# Altium schematic symbol library Microschemes.SchLib: 118 symbols (part 2 of 2)
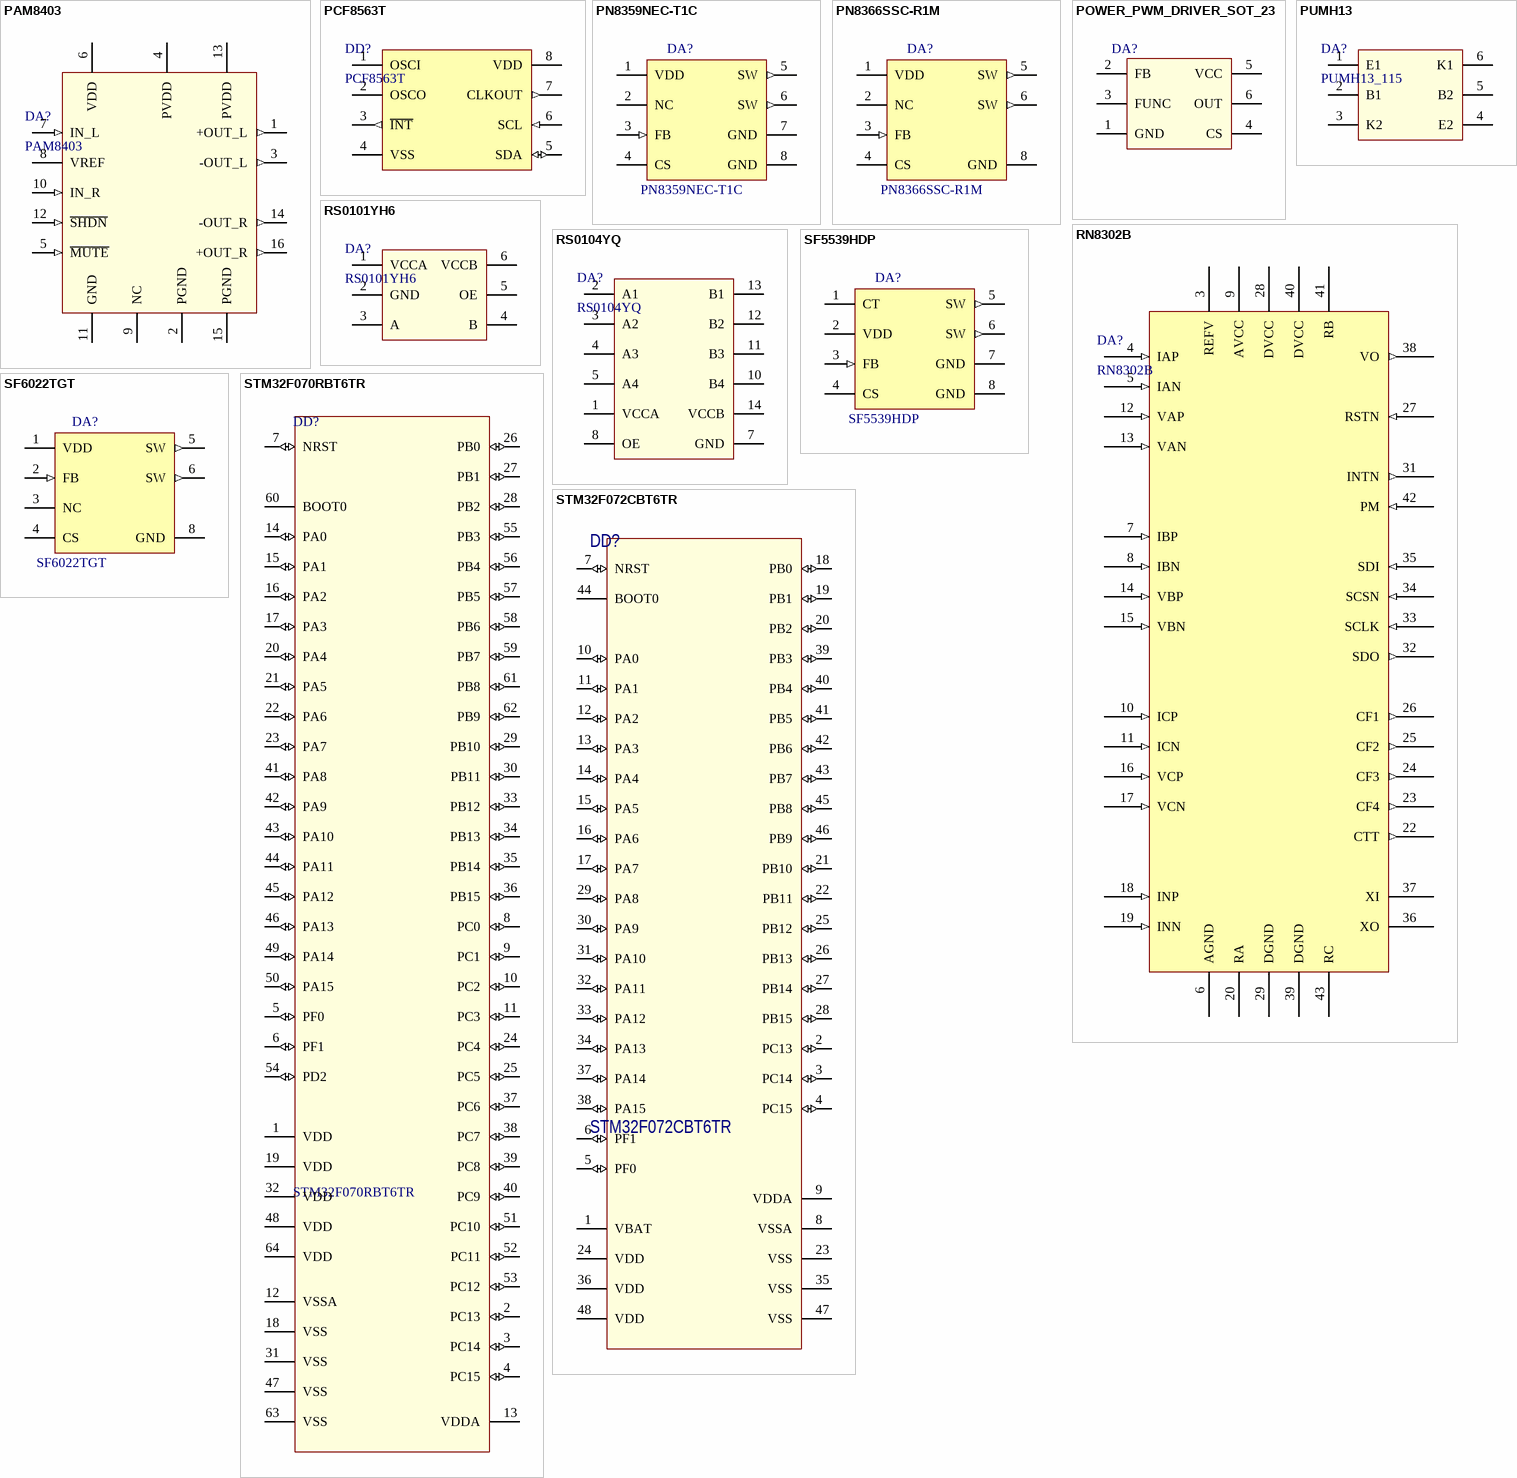
[diagram p14: symbols PAM8403 to STM32F072CBT6TR]

## PAM8403
designator DA?
Filterless 3W Class-D Stereo Audio Amplifier, SOP-16
footprint SO-16 (SOIC, 16-Leads, Body 9.9x3.9mm, Pitch 1.27mm)
pins: 1 +OUT_L (out), 2 PGND (power), 3 -OUT_L (out), 4 PVDD (power), 5 ~{MUTE} (in), 6 VDD (power), 7 IN_L (in), 8 VREF, 9 NC (power), 10 IN_R (in), 11 GND (power), 12 ~{SHDN} (in), 13 PVDD (power), 14 -OUT_R (out), 15 PGND (power), 16 +OUT_R (out)

## PCF8563T
designator DD?
Real-time clock/calendar, SOIC-8
pins: 1 OSCI, 2 OSCO, 3 ~{INT} (out), 4 VSS (power), 5 SDA (io), 6 SCL (in), 7 CLKOUT (out), 8 VDD (power)

## PN8359NEC-T1C
designator DA?
Ultra-low standby power consumption quasi-resonant primary side feedback AC-DC converter, 15W, DIP-8
footprint DIP8
pins: 1 VDD (power), 2 NC, 3 FB (in), 4 CS (oc), 5 SW (out), 6 SW (out), 7 GND (power), 8 GND (power)

## PN8366SSC-R1M
designator DA?
Ultra-low standby power consumption quasi-resonant primary side feedback AC-DC converter, SOP-7
footprint SOP-7 (SOIC, 7-Leads, Body 4.9x3.9mm, Pitch 1.27mm)
pins: 1 VDD (power), 2 NC, 3 FB (in), 4 CS (oc), 5 SW (out), 6 SW (out), 8 GND (power)

## POWER_PWM_DRIVER_SOT_23
designator DA?
Current-Mode PWM / Controller for Off-line / Power Supplies
footprint SOT-23-6 (SOT23, 6-Leads, Body 2.9x1.3mm, Pitch 0.95mm, Lead Span 2.3mm, IPC Medium Density)
pins: 1 GND, 2 FB, 3 FUNC, 4 CS, 5 VCC, 6 OUT

## PUMH13
designator DA?, comment PUMH13_115
NPN/NPN resistor-equipped transistors; R1 = 4.7 k, R2 = 47 k
pins: 1 E1, 2 B1, 3 K2, 4 E2, 5 B2, 6 K1

## RN8302B
designator DA?
Three-phase Anti-tampering Multifuction Electircal Energy Meter IC
pins: 3 REFV, 4 IAP (in), 5 IAN (in), 6 AGND, 7 IBP (in), 8 IBN (in), 9 AVCC, 10 ICP (in), 11 ICN (in), 12 VAP (in), 13 VAN (in), 14 VBP (in), 15 VBN (in), 16 VCP (in), 17 VCN (in), 18 INP (in), 19 INN (in), 20 RA, 22 CTT (out), 23 CF4 (out), 24 CF3 (out), 25 CF2 (out), 26 CF1 (out), 27 RSTN (in), 28 DVCC, 29 DGND, 31 INTN (out), 32 SDO (out), 33 SCLK (in), 34 SCSN (in), 35 SDI (in), 36 XO, 37 XI, 38 VO (out), 39 DGND, 40 DVCC, 41 RB, 42 PM (in), 43 RC

## RS0101YH6
designator DA?
Level Translators, Shifters RoHS
pins: 1 VCCA, 2 GND, 3 A, 4 B, 5 OE, 6 VCCB

## RS0104YQ
designator DA?
TSSOP-14 4-channel Level Translators, Shifters RoHS
pins: 1 VCCA, 2 A1, 3 A2, 4 A3, 5 A4, 7 GND, 8 OE, 10 B4, 11 B3, 12 B2, 13 B1, 14 VCCB

## SF5539HDP
designator DA?
Fixed 65kHz Fsw high perfomance current mode flyback PWM controller, 18W open frame, DIP-8
footprint DIP8
pins: 1 CT (power), 2 VDD, 3 FB (in), 4 CS (oc), 5 SW (out), 6 SW (out), 7 GND (power), 8 GND (power)

## SF6022TGT
designator DA?
The second generation of PSR constant voltage constant current (CV/CC) power switch, SOP-7
footprint SOP-7 (SOIC, 7-Leads, Body 4.9x3.9mm, Pitch 1.27mm)
pins: 1 VDD (power), 2 FB (in), 3 NC, 4 CS (oc), 5 SW (out), 6 SW (out), 8 GND (power)

## STM32F070RBT6TR
designator DD?
IC, MCU, LQFP-64, 32-bit ARM Cortex-M0, 48Mhz, flash 128kb (ST)
footprint LQFP64
pins: 1 VDD (power) "Digital power supply", 2 PC13 (io) "WKUP2,  RTC_TAMP1,  RTC_TS,  RTC_OUT", 3 PC14 (io) "OSC32_IN", 4 PC15 (io) "OSC32_OU", 5 PF0 (io) "I2C1_SDA, OSC_IN", 6 PF1 (io) "I2C1_SCL, OSC_OUT", 7 NRST (io) "Device reset input / internal reset output (active low)", 8 PC0 (io), 9 PC1 (io), 10 PC2 (io), 11 PC3 (io), 12 VSSA (power) "Analog ground", 13 VDDA (power) "Analog power supply", 14 PA0 (io) "USART2_CTS,  USART4_TX  RTC_ TAMP2,  WKUP1, ADC_IN0,", 15 PA1 (io) "USART2_RTS,  TIM15_CH1N,  USART4_RX, EVENTOUT  ADC_IN1", 16 PA2 (io) "USART2_TX, TIM15_CH1 ADC_IN2, WKUP4", 17 PA3 (io) "USART2_RX, TIM15_CH2 ADC_IN3", 18 VSS (power) "Graound", 19 VDD (power) "Digital power supply", 20 PA4 (io) "SPI1_NSS, TIM14_CH1,  USART2_CK,  USB_NOE(3)  ADC_IN4", 21 PA5 (io) "SPI1_SCK ADC_IN5", 22 PA6 (io) "SPI1_MISO, TIM3_CH1,  TIM1_BKIN,  TIM16_CH1, EVENTOUT,  USART3_CTS  ADC_IN6", 23 PA7 (io) "SPI1_MOSI, TIM3_CH2,  TIM14_CH1,  TIM1_CH1N, TIM17_CH1,  EVENTOUT  ADC_IN7", 24 PC4 (io), 25 PC5 (io), 26 PB0 (io) "TIM3_CH3, TIM1_CH2N,  EVENTOUT,  USART3_CK  ADC_IN8", 27 PB1 (io) "TIM3_CH4,  USART3_RTS,  TIM14_CH1, TIM1_CH3N  ADC_IN9", 28 PB2 (io), 29 PB10 (io) "SPI2_SCK, USART3_TX", 30 PB11 (io) "USART3_RX,  EVENTOUT, I2C2_SDA", 31 VSS (power) "Graound", 32 VDD (power) "Digital power supply", 33 PB12 (io) "TIM1_BKIN, TIM15_BKIN,  SPI2_NSS, EVENTOUT,  USART3_CK", 34 PB13 (io) "SPI2_SCK, I2C2_SCL,  TIM1_CH1N,  USART3_CTS", 35 PB14 (io) "SPI2_MISO, I2C2_SDA,  TIM1_CH2N, TIM15_CH1,  USART3_RTS", 36 PB15 (io) "SPI2_MOSI, TIM1_CH3N,  TIM15_CH1N,  TIM15_CH2  WKUP7,  RTC_REFIN", 37 PC6 (io), 38 PC7 (io), 39 PC8 (io), 40 PC9 (io), 41 PA8 (io) "USART1_CK, TIM1_CH1,  EVENTOUT, MCO", 42 PA9 (io) "USART1_TX, TIM1_CH2,  TIM15_BKIN,  I2C1_SCL", 43 PA10 (io) "USART1_RX, TIM1_CH3,  TIM17_BKIN,  I2C1_SDA", 44 PA11 (io) "USART1_CTS,  TIM1_CH4, EVENTOUT USB_DM", 45 PA12 (io) "USART1_RTS,  TIM1_ETR, EVENTOUT USB_DP", 46 PA13 (io) "IR_OUT, SWDIO,  USB_NOE", 47 VSS (power) "Ground", 48 VDD (power) "Digital power supply", 49 PA14 (io) "USART2_TX, SWCLK", 50 PA15 (io) "SPI1_NSS, USART2_RX,  USART4_RTS,  EVENTOUT", 51 PC10 (io), 52 PC11 (io), 53 PC12 (io), 54 PD2 (io), 55 PB3 (io) "SPI1_SCK, EVENTOUT", 56 PB4 (io) "SPI1_MISO, TIM17_BKIN,  TIM3_CH1, EVENTOUT", 57 PB5 (io) "SPI1_MOSI, I2C1_SMBA,  TIM16_BKIN,  TIM3_CH2  WKUP6", 58 PB6 (io) "I2C1_SCL, USART1_TX,  TIM16_CH1N", 59 PB7 (io) "I2C1_SDA, USART1_RX,  USART4_CTS,  TIM17_C", 60 BOOT0 "Boot memory selection", 61 PB8 (io) "I2C1_SCL, TIM16_CH1", 62 PB9 (io) "SPI2_NSS, I2C1_SDA,  IR_OUT,  TIM17_CH1, EVENTOUT", 63 VSS (power) "Ground", 64 VDD (power) "Digital power supply"

## STM32F072CBT6TR
designator DD?
IC, MCU, LQFP-48, 32-bit ARM Cortex-M0, 48Mhz, flash 128kb
footprint LQFP48
pins: 1 VBAT (power) "Digital power supply", 2 PC13 (io) "WKUP2,  RTC_TAMP1,  RTC_TS,  RTC_OUT", 3 PC14 (io) "OSC32_IN", 4 PC15 (io) "OSC32_OU", 5 PF0 (io) "I2C1_SDA, OSC_IN", 6 PF1 (io) "I2C1_SCL, OSC_OUT", 7 NRST (io) "Device reset input / internal reset output (active low)", 8 VSSA (power) "Analog ground", 9 VDDA (power) "Analog power supply", 10 PA0 (io) "USART2_CTS,  USART4_TX  RTC_ TAMP2,  WKUP1, ADC_IN0,", 11 PA1 (io) "USART2_RTS,  TIM15_CH1N,  USART4_RX, EVENTOUT  ADC_IN1", 12 PA2 (io) "USART2_TX, TIM15_CH1 ADC_IN2, WKUP4", 13 PA3 (io) "USART2_RX, TIM15_CH2 ADC_IN3", 14 PA4 (io) "SPI1_NSS, TIM14_CH1,  USART2_CK,  USB_NOE(3)  ADC_IN4", 15 PA5 (io) "SPI1_SCK ADC_IN5", 16 PA6 (io) "SPI1_MISO, TIM3_CH1,  TIM1_BKIN,  TIM16_CH1, EVENTOUT,  USART3_CTS  ADC_IN6", 17 PA7 (io) "SPI1_MOSI, TIM3_CH2,  TIM14_CH1,  TIM1_CH1N, TIM17_CH1,  EVENTOUT  ADC_IN7", 18 PB0 (io) "TIM3_CH3, TIM1_CH2N,  EVENTOUT,  USART3_CK  ADC_IN8", 19 PB1 (io) "TIM3_CH4,  USART3_RTS,  TIM14_CH1, TIM1_CH3N  ADC_IN9", 20 PB2 (io), 21 PB10 (io) "SPI2_SCK, USART3_TX", 22 PB11 (io) "USART3_RX,  EVENTOUT, I2C2_SDA", 23 VSS (power) "Graound", 24 VDD (power) "Digital power supply", 25 PB12 (io) "TIM1_BKIN, TIM15_BKIN,  SPI2_NSS, EVENTOUT,  USART3_CK", 26 PB13 (io) "SPI2_SCK, I2C2_SCL,  TIM1_CH1N,  USART3_CTS", 27 PB14 (io) "SPI2_MISO, I2C2_SDA,  TIM1_CH2N, TIM15_CH1,  USART3_RTS", 28 PB15 (io) "SPI2_MOSI, TIM1_CH3N,  TIM15_CH1N,  TIM15_CH2  WKUP7,  RTC_REFIN", 29 PA8 (io) "USART1_CK, TIM1_CH1,  EVENTOUT, MCO", 30 PA9 (io) "USART1_TX, TIM1_CH2,  TIM15_BKIN,  I2C1_SCL", 31 PA10 (io) "USART1_RX, TIM1_CH3,  TIM17_BKIN,  I2C1_SDA", 32 PA11 (io) "USART1_CTS,  TIM1_CH4, EVENTOUT USB_DM", 33 PA12 (io) "USART1_RTS,  TIM1_ETR, EVENTOUT USB_DP", 34 PA13 (io) "IR_OUT, SWDIO,  USB_NOE", 35 VSS (power) "Ground", 36 VDD (power) "Digital power supply", 37 PA14 (io) "USART2_TX, SWCLK", 38 PA15 (io) "SPI1_NSS, USART2_RX,  USART4_RTS,  EVENTOUT", 39 PB3 (io) "SPI1_SCK, EVENTOUT", 40 PB4 (io) "SPI1_MISO, TIM17_BKIN,  TIM3_CH1, EVENTOUT", 41 PB5 (io) "SPI1_MOSI, I2C1_SMBA,  TIM16_BKIN,  TIM3_CH2  WKUP6", 42 PB6 (io) "I2C1_SCL, USART1_TX,  TIM16_CH1N", 43 PB7 (io) "I2C1_SDA, USART1_RX,  USART4_CTS,  TIM17_C", 44 BOOT0 "Boot memory selection", 45 PB8 (io) "I2C1_SCL, TIM16_CH1", 46 PB9 (io) "SPI2_NSS, I2C1_SDA,  IR_OUT,  TIM17_CH1, EVENTOUT", 47 VSS (power) "Ground", 48 VDD (power) "Digital power supply"

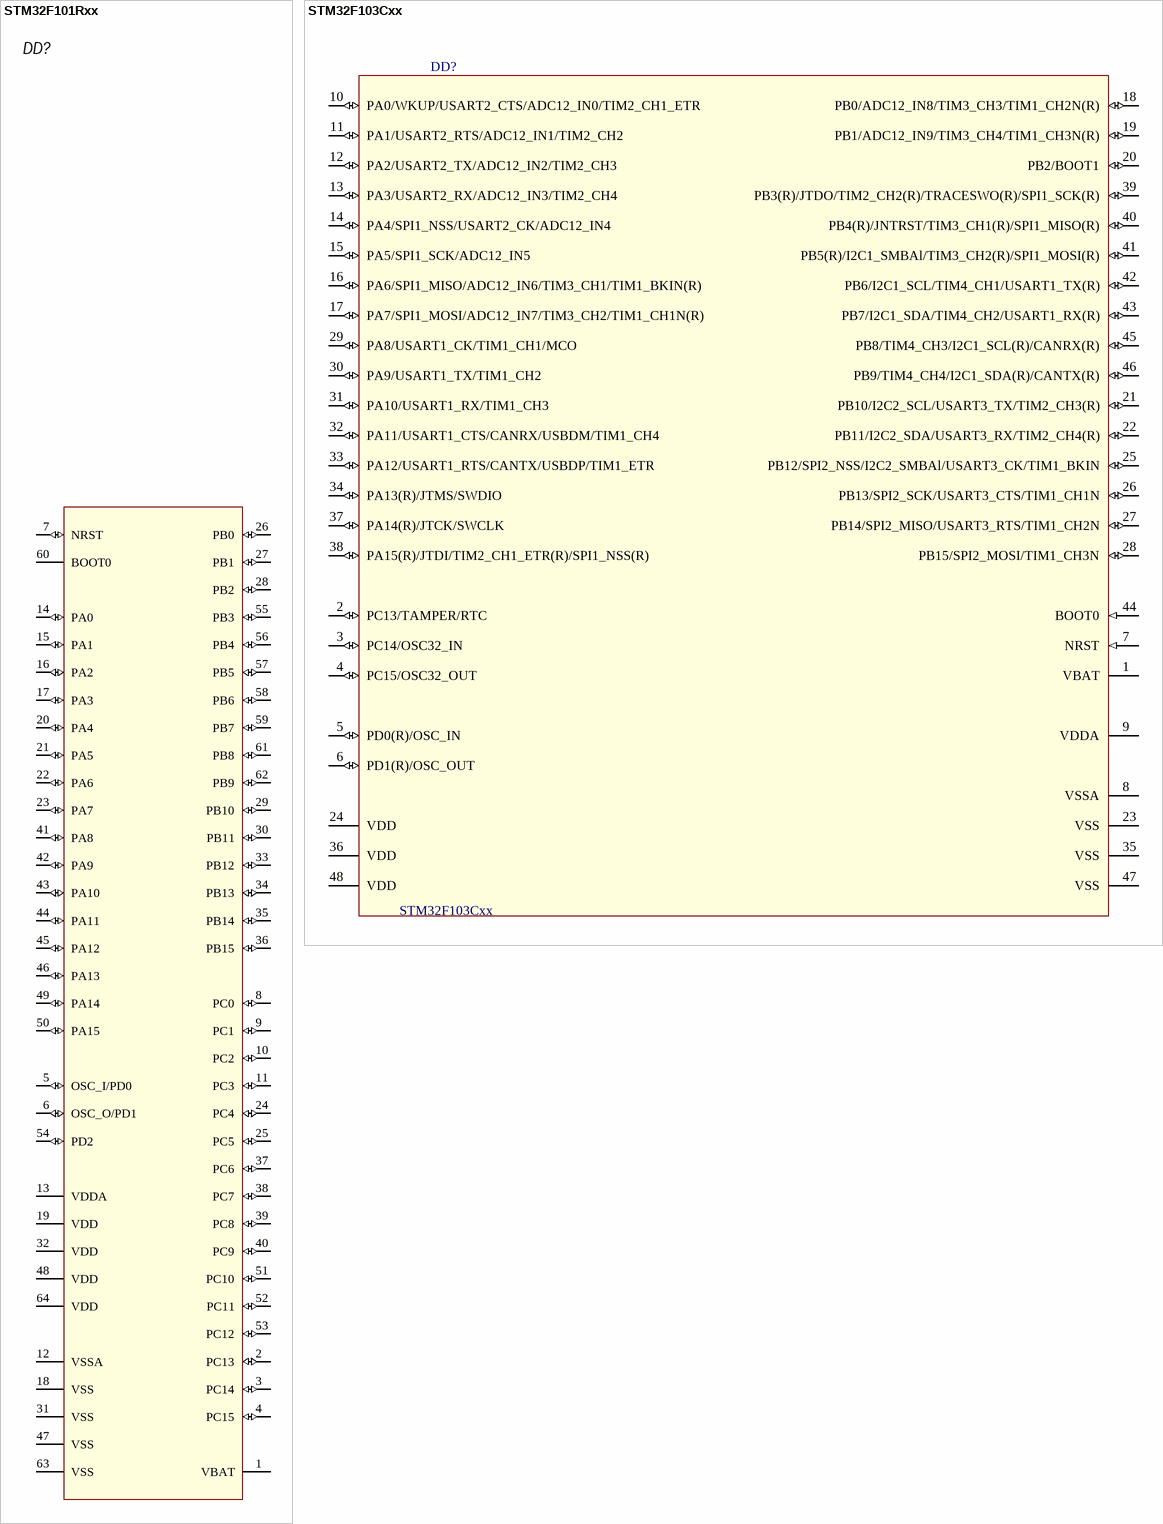
[diagram p11: symbols STM32F101Rxx to STM32F103Cxx]

## STM32F101Rxx
designator DD?, comment STM32F101RCT6  (value not drawn)
IC, MCU, LQFP-64, 32-bit ARM Cortex-M3; Manufacturer: ST; Group: Микросхемы; Value: Микроконтроллер; Name: STM32F101RCT6; Supplier: ООО"Торгэлектроника"
footprint LQFP64
pins: 1 VBAT (power) "Analog power supply", 2 PC13 (io) "WKUP2,  RTC_TAMP1,  RTC_TS,  RTC_OUT", 3 PC14 (io) "OSC32_IN", 4 PC15 (io) "OSC32_OU", 5 OSC_I/PD0 (io) "I2C1_SDA, OSC_IN", 6 OSC_O/PD1 (io) "I2C1_SCL, OSC_OUT", 7 NRST (io) "Device reset input / internal reset output (active low)", 8 PC0 (io), 9 PC1 (io), 10 PC2 (io), 11 PC3 (io), 12 VSSA (power) "Analog ground", 13 VDDA (power) "Digital power supply", 14 PA0 (io) "USART2_CTS,  USART4_TX  RTC_ TAMP2,  WKUP1, ADC_IN0,", 15 PA1 (io) "USART2_RTS,  TIM15_CH1N,  USART4_RX, EVENTOUT  ADC_IN1", 16 PA2 (io) "USART2_TX, TIM15_CH1 ADC_IN2, WKUP4", 17 PA3 (io) "USART2_RX, TIM15_CH2 ADC_IN3", 18 VSS (power) "Graound", 19 VDD (power) "Digital power supply", 20 PA4 (io) "SPI1_NSS, TIM14_CH1,  USART2_CK,  USB_NOE(3)  ADC_IN4", 21 PA5 (io) "SPI1_SCK ADC_IN5", 22 PA6 (io) "SPI1_MISO, TIM3_CH1,  TIM1_BKIN,  TIM16_CH1, EVENTOUT,  USART3_CTS  ADC_IN6", 23 PA7 (io) "SPI1_MOSI, TIM3_CH2,  TIM14_CH1,  TIM1_CH1N, TIM17_CH1,  EVENTOUT  ADC_IN7", 24 PC4 (io), 25 PC5 (io), 26 PB0 (io) "TIM3_CH3, TIM1_CH2N,  EVENTOUT,  USART3_CK  ADC_IN8", 27 PB1 (io) "TIM3_CH4,  USART3_RTS,  TIM14_CH1, TIM1_CH3N  ADC_IN9", 28 PB2 (io), 29 PB10 (io) "SPI2_SCK, USART3_TX", 30 PB11 (io) "USART3_RX,  EVENTOUT, I2C2_SDA", 31 VSS (power) "Graound", 32 VDD (power) "Digital power supply", 33 PB12 (io) "TIM1_BKIN, TIM15_BKIN,  SPI2_NSS, EVENTOUT,  USART3_CK", 34 PB13 (io) "SPI2_SCK, I2C2_SCL,  TIM1_CH1N,  USART3_CTS", 35 PB14 (io) "SPI2_MISO, I2C2_SDA,  TIM1_CH2N, TIM15_CH1,  USART3_RTS", 36 PB15 (io) "SPI2_MOSI, TIM1_CH3N,  TIM15_CH1N,  TIM15_CH2  WKUP7,  RTC_REFIN", 37 PC6 (io), 38 PC7 (io), 39 PC8 (io), 40 PC9 (io), 41 PA8 (io) "USART1_CK, TIM1_CH1,  EVENTOUT, MCO", 42 PA9 (io) "USART1_TX, TIM1_CH2,  TIM15_BKIN,  I2C1_SCL", 43 PA10 (io) "USART1_RX, TIM1_CH3,  TIM17_BKIN,  I2C1_SDA", 44 PA11 (io) "USART1_CTS,  TIM1_CH4, EVENTOUT USB_DM", 45 PA12 (io) "USART1_RTS,  TIM1_ETR, EVENTOUT USB_DP", 46 PA13 (io) "IR_OUT, SWDIO,  USB_NOE", 47 VSS (power) "Ground", 48 VDD (power) "Digital power supply", 49 PA14 (io) "USART2_TX, SWCLK", 50 PA15 (io) "SPI1_NSS, USART2_RX,  USART4_RTS,  EVENTOUT", 51 PC10 (io), 52 PC11 (io), 53 PC12 (io), 54 PD2 (io), 55 PB3 (io) "SPI1_SCK, EVENTOUT", 56 PB4 (io) "SPI1_MISO, TIM17_BKIN,  TIM3_CH1, EVENTOUT", 57 PB5 (io) "SPI1_MOSI, I2C1_SMBA,  TIM16_BKIN,  TIM3_CH2  WKUP6", 58 PB6 (io) "I2C1_SCL, USART1_TX,  TIM16_CH1N", 59 PB7 (io) "I2C1_SDA, USART1_RX,  USART4_CTS,  TIM17_C", 60 BOOT0 "Boot memory selection", 61 PB8 (io) "I2C1_SCL, TIM16_CH1", 62 PB9 (io) "SPI2_NSS, I2C1_SDA,  IR_OUT,  TIM17_CH1, EVENTOUT", 63 VSS (power) "Ground", 64 VDD (power) "Digital power supply"

## STM32F103Cxx
designator DD?
IC, MCU, LQFP-48, 32-bit ARM Cortex-M3
footprint LQFP48
pins: 1 VBAT (power) "Analog power supply", 2 PC13/TAMPER/RTC (io) "WKUP2,  RTC_TAMP1,  RTC_TS,  RTC_OUT", 3 PC14/OSC32_IN (io) "OSC32_IN", 4 PC15/OSC32_OUT (io) "OSC32_OU", 5 PD0(R)/OSC_IN (io) "I2C1_SDA, OSC_IN", 6 PD1(R)/OSC_OUT (io) "I2C1_SCL, OSC_OUT", 7 NRST (in) "Device reset input / internal reset output (active low)", 8 VSSA (power) "Analog ground", 9 VDDA (power) "Digital power supply", 10 PA0/WKUP/USART2_CTS/ADC12_IN0/TIM2_CH1_ETR (io) "USART2_CTS,  USART4_TX  RTC_ TAMP2,  WKUP1, ADC_IN0,", 11 PA1/USART2_RTS/ADC12_IN1/TIM2_CH2 (io) "USART2_RTS,  TIM15_CH1N,  USART4_RX, EVENTOUT  ADC_IN1", 12 PA2/USART2_TX/ADC12_IN2/TIM2_CH3 (io) "USART2_TX, TIM15_CH1 ADC_IN2, WKUP4", 13 PA3/USART2_RX/ADC12_IN3/TIM2_CH4 (io) "USART2_RX, TIM15_CH2 ADC_IN3", 14 PA4/SPI1_NSS/USART2_CK/ADC12_IN4 (io) "SPI1_NSS, TIM14_CH1,  USART2_CK,  USB_NOE(3)  ADC_IN4", 15 PA5/SPI1_SCK/ADC12_IN5  (io) "SPI1_SCK ADC_IN5", 16 PA6/SPI1_MISO/ADC12_IN6/TIM3_CH1/TIM1_BKIN(R) (io) "SPI1_MISO, TIM3_CH1,  TIM1_BKIN,  TIM16_CH1, EVENTOUT,  USART3_CTS  ADC_IN6", 17 PA7/SPI1_MOSI/ADC12_IN7/TIM3_CH2/TIM1_CH1N(R) (io) "SPI1_MOSI, TIM3_CH2,  TIM14_CH1,  TIM1_CH1N, TIM17_CH1,  EVENTOUT  ADC_IN7", 18 PB0/ADC12_IN8/TIM3_CH3/TIM1_CH2N(R) (io) "TIM3_CH3, TIM1_CH2N,  EVENTOUT,  USART3_CK  ADC_IN8", 19 PB1/ADC12_IN9/TIM3_CH4/TIM1_CH3N(R) (io) "TIM3_CH4,  USART3_RTS,  TIM14_CH1, TIM1_CH3N  ADC_IN9", 20 PB2/BOOT1 (io) "PB2", 21 PB10/I2C2_SCL/USART3_TX/TIM2_CH3(R) (io) "SPI2_SCK, USART3_TX", 22 PB11/I2C2_SDA/USART3_RX/TIM2_CH4(R) (io) "USART3_RX,  EVENTOUT, I2C2_SDA", 23 VSS (power) "Graound", 24 VDD (power) "Digital power supply", 25 PB12/SPI2_NSS/I2C2_SMBAl/USART3_CK/TIM1_BKIN (io) "TIM1_BKIN, TIM15_BKIN,  SPI2_NSS, EVENTOUT,  USART3_CK", 26 PB13/SPI2_SCK/USART3_CTS/TIM1_CH1N (io) "SPI2_SCK, I2C2_SCL,  TIM1_CH1N,  USART3_CTS", 27 PB14/SPI2_MISO/USART3_RTS/TIM1_CH2N (io) "SPI2_MISO, I2C2_SDA,  TIM1_CH2N, TIM15_CH1,  USART3_RTS", 28 PB15/SPI2_MOSI/TIM1_CH3N (io) "SPI2_MOSI, TIM1_CH3N,  TIM15_CH1N,  TIM15_CH2  WKUP7,  RTC_REFIN", 29 PA8/USART1_CK/TIM1_CH1/MCO (io) "USART1_CK, TIM1_CH1,  EVENTOUT, MCO", 30 PA9/USART1_TX/TIM1_CH2 (io) "USART1_TX, TIM1_CH2,  TIM15_BKIN,  I2C1_SCL", 31 PA10/USART1_RX/TIM1_CH3 (io) "USART1_RX, TIM1_CH3,  TIM17_BKIN,  I2C1_SDA", 32 PA11/USART1_CTS/CANRX/USBDM/TIM1_CH4 (io) "USART1_CTS,  TIM1_CH4, EVENTOUT USB_DM", 33 PA12/USART1_RTS/CANTX/USBDP/TIM1_ETR (io) "USART1_RTS,  TIM1_ETR, EVENTOUT USB_DP", 34 PA13(R)/JTMS/SWDIO (io) "IR_OUT, SWDIO,  USB_NOE", 35 VSS (power) "Ground", 36 VDD (power) "Digital power supply", 37 PA14(R)/JTCK/SWCLK (io) "USART2_TX, SWCLK", 38 PA15(R)/JTDI/TIM2_CH1_ETR(R)/SPI1_NSS(R) (io) "SPI1_NSS, USART2_RX,  USART4_RTS,  EVENTOUT", 39 PB3(R)/JTDO/TIM2_CH2(R)/TRACESWO(R)/SPI1_SCK(R) (io) "SPI1_SCK, EVENTOUT", 40 PB4(R)/JNTRST/TIM3_CH1(R)/SPI1_MISO(R) (io) "SPI1_MISO, TIM17_BKIN,  TIM3_CH1, EVENTOUT", 41 PB5(R)/I2C1_SMBAl/TIM3_CH2(R)/SPI1_MOSI(R) (io) "SPI1_MOSI, I2C1_SMBA,  TIM16_BKIN,  TIM3_CH2  WKUP6", 42 PB6/I2C1_SCL/TIM4_CH1/USART1_TX(R) (io) "I2C1_SCL, USART1_TX,  TIM16_CH1N", 43 PB7/I2C1_SDA/TIM4_CH2/USART1_RX(R) (io) "I2C1_SDA, USART1_RX,  USART4_CTS,  TIM17_C", 44 BOOT0 (in) "Boot memory selection", 45 PB8/TIM4_CH3/I2C1_SCL(R)/CANRX(R) (io) "I2C1_SCL, TIM16_CH1", 46 PB9/TIM4_CH4/I2C1_SDA(R)/CANTX(R) (io) "SPI2_NSS, I2C1_SDA,  IR_OUT,  TIM17_CH1, EVENTOUT", 47 VSS (power) "Ground", 48 VDD (power) "Digital power supply"

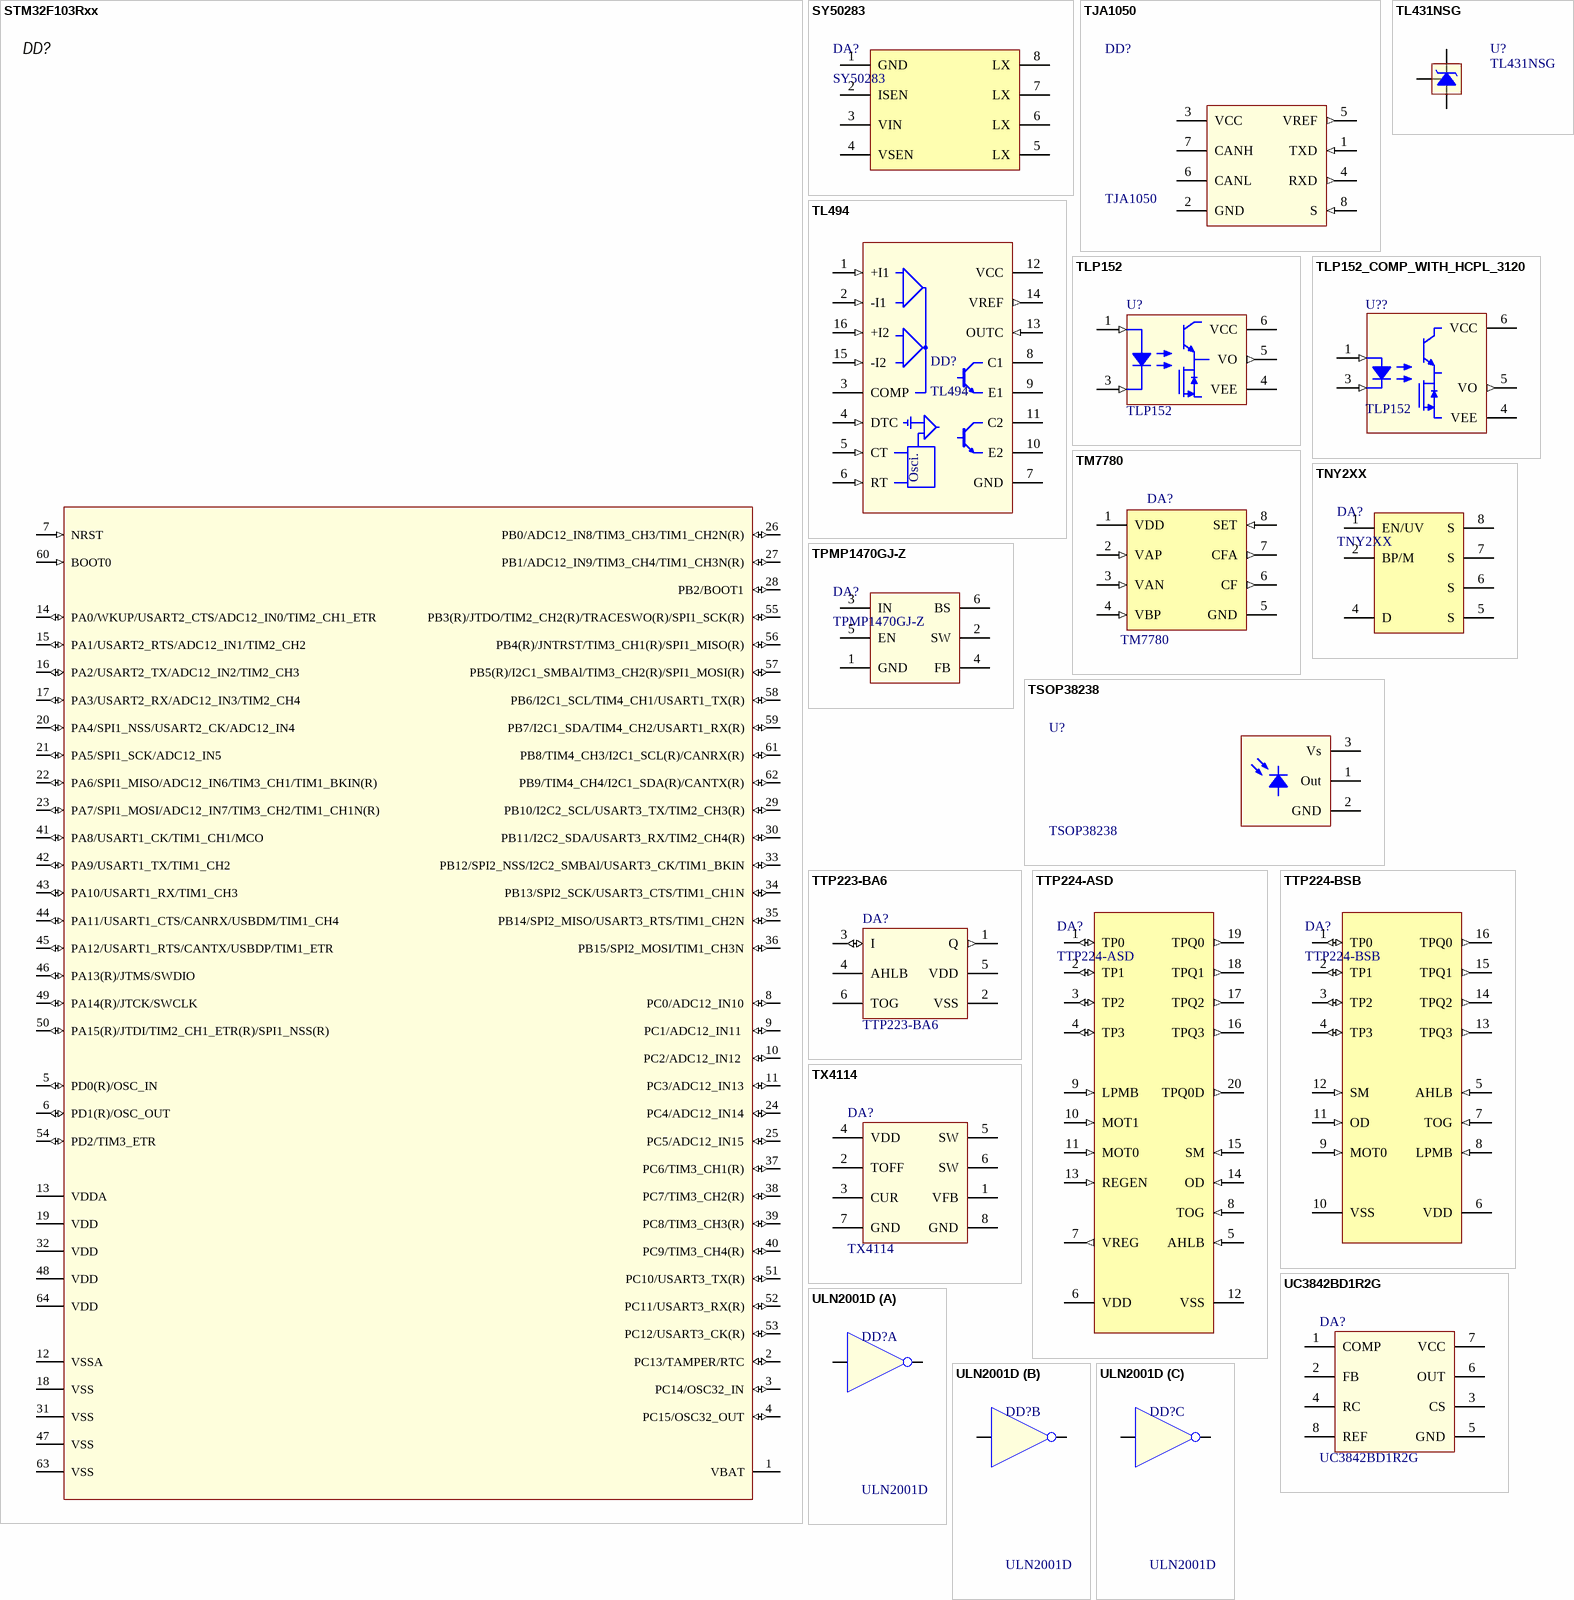
[diagram p12: symbols STM32F103Rxx to ULN2001D]

## STM32F103Rxx
designator DD?  (value not drawn)
IC, MCU, LQFP-64, 32-bit ARM Cortex-M3; Manufacturer: ST; Name: STM32F101RCT6; Group: Микросхемы; Value: Микроконтроллер; Supplier: ООО"Торгэлектроника"
footprint LQFP64
pins: 1 VBAT (power) "Analog power supply", 2 PC13/TAMPER/RTC (io) "WKUP2,  RTC_TAMP1,  RTC_TS,  RTC_OUT", 3 PC14/OSC32_IN (io) "OSC32_IN", 4 PC15/OSC32_OUT (io) "OSC32_OU", 5 PD0(R)/OSC_IN (io) "I2C1_SDA, OSC_IN", 6 PD1(R)/OSC_OUT (io) "I2C1_SCL, OSC_OUT", 7 NRST (in) "Device reset input / internal reset output (active low)", 8 PC0/ADC12_IN10 (io), 9 PC1/ADC12_IN11  (io), 10 PC2/ADC12_IN12  (io), 11 PC3/ADC12_IN13 (io), 12 VSSA (power) "Analog ground", 13 VDDA (power) "Digital power supply", 14 PA0/WKUP/USART2_CTS/ADC12_IN0/TIM2_CH1_ETR (io) "USART2_CTS,  USART4_TX  RTC_ TAMP2,  WKUP1, ADC_IN0,", 15 PA1/USART2_RTS/ADC12_IN1/TIM2_CH2 (io) "USART2_RTS,  TIM15_CH1N,  USART4_RX, EVENTOUT  ADC_IN1", 16 PA2/USART2_TX/ADC12_IN2/TIM2_CH3 (io) "USART2_TX, TIM15_CH1 ADC_IN2, WKUP4", 17 PA3/USART2_RX/ADC12_IN3/TIM2_CH4 (io) "USART2_RX, TIM15_CH2 ADC_IN3", 18 VSS (power) "Graound", 19 VDD (power) "Digital power supply", 20 PA4/SPI1_NSS/USART2_CK/ADC12_IN4 (io) "SPI1_NSS, TIM14_CH1,  USART2_CK,  USB_NOE(3)  ADC_IN4", 21 PA5/SPI1_SCK/ADC12_IN5  (io) "SPI1_SCK ADC_IN5", 22 PA6/SPI1_MISO/ADC12_IN6/TIM3_CH1/TIM1_BKIN(R) (io) "SPI1_MISO, TIM3_CH1,  TIM1_BKIN,  TIM16_CH1, EVENTOUT,  USART3_CTS  ADC_IN6", 23 PA7/SPI1_MOSI/ADC12_IN7/TIM3_CH2/TIM1_CH1N(R) (io) "SPI1_MOSI, TIM3_CH2,  TIM14_CH1,  TIM1_CH1N, TIM17_CH1,  EVENTOUT  ADC_IN7", 24 PC4/ADC12_IN14 (io), 25 PC5/ADC12_IN15 (io), 26 PB0/ADC12_IN8/TIM3_CH3/TIM1_CH2N(R) (io) "TIM3_CH3, TIM1_CH2N,  EVENTOUT,  USART3_CK  ADC_IN8", 27 PB1/ADC12_IN9/TIM3_CH4/TIM1_CH3N(R) (io) "TIM3_CH4,  USART3_RTS,  TIM14_CH1, TIM1_CH3N  ADC_IN9", 28 PB2/BOOT1 (io) "PB2", 29 PB10/I2C2_SCL/USART3_TX/TIM2_CH3(R) (io) "SPI2_SCK, USART3_TX", 30 PB11/I2C2_SDA/USART3_RX/TIM2_CH4(R) (io) "USART3_RX,  EVENTOUT, I2C2_SDA", 31 VSS (power) "Graound", 32 VDD (power) "Digital power supply", 33 PB12/SPI2_NSS/I2C2_SMBAl/USART3_CK/TIM1_BKIN (io) "TIM1_BKIN, TIM15_BKIN,  SPI2_NSS, EVENTOUT,  USART3_CK", 34 PB13/SPI2_SCK/USART3_CTS/TIM1_CH1N (io) "SPI2_SCK, I2C2_SCL,  TIM1_CH1N,  USART3_CTS", 35 PB14/SPI2_MISO/USART3_RTS/TIM1_CH2N (io) "SPI2_MISO, I2C2_SDA,  TIM1_CH2N, TIM15_CH1,  USART3_RTS", 36 PB15/SPI2_MOSI/TIM1_CH3N (io) "SPI2_MOSI, TIM1_CH3N,  TIM15_CH1N,  TIM15_CH2  WKUP7,  RTC_REFIN", 37 PC6/TIM3_CH1(R) (io), 38 PC7/TIM3_CH2(R) (io), 39 PC8/TIM3_CH3(R) (io), 40 PC9/TIM3_CH4(R) (io), 41 PA8/USART1_CK/TIM1_CH1/MCO (io) "USART1_CK, TIM1_CH1,  EVENTOUT, MCO", 42 PA9/USART1_TX/TIM1_CH2 (io) "USART1_TX, TIM1_CH2,  TIM15_BKIN,  I2C1_SCL", 43 PA10/USART1_RX/TIM1_CH3 (io) "USART1_RX, TIM1_CH3,  TIM17_BKIN,  I2C1_SDA", 44 PA11/USART1_CTS/CANRX/USBDM/TIM1_CH4 (io) "USART1_CTS,  TIM1_CH4, EVENTOUT USB_DM", 45 PA12/USART1_RTS/CANTX/USBDP/TIM1_ETR (io) "USART1_RTS,  TIM1_ETR, EVENTOUT USB_DP", 46 PA13(R)/JTMS/SWDIO (io) "IR_OUT, SWDIO,  USB_NOE", 47 VSS (power) "Ground", 48 VDD (power) "Digital power supply", 49 PA14(R)/JTCK/SWCLK (io) "USART2_TX, SWCLK", 50 PA15(R)/JTDI/TIM2_CH1_ETR(R)/SPI1_NSS(R) (io) "SPI1_NSS, USART2_RX,  USART4_RTS,  EVENTOUT", 51 PC10/USART3_TX(R) (io), 52 PC11/USART3_RX(R) (io), 53 PC12/USART3_CK(R) (io), 54 PD2/TIM3_ETR (io), 55 PB3(R)/JTDO/TIM2_CH2(R)/TRACESWO(R)/SPI1_SCK(R) (io) "SPI1_SCK, EVENTOUT", 56 PB4(R)/JNTRST/TIM3_CH1(R)/SPI1_MISO(R) (io) "SPI1_MISO, TIM17_BKIN,  TIM3_CH1, EVENTOUT", 57 PB5(R)/I2C1_SMBAl/TIM3_CH2(R)/SPI1_MOSI(R) (io) "SPI1_MOSI, I2C1_SMBA,  TIM16_BKIN,  TIM3_CH2  WKUP6", 58 PB6/I2C1_SCL/TIM4_CH1/USART1_TX(R) (io) "I2C1_SCL, USART1_TX,  TIM16_CH1N", 59 PB7/I2C1_SDA/TIM4_CH2/USART1_RX(R) (io) "I2C1_SDA, USART1_RX,  USART4_CTS,  TIM17_C", 60 BOOT0 (in) "Boot memory selection", 61 PB8/TIM4_CH3/I2C1_SCL(R)/CANRX(R) (io) "I2C1_SCL, TIM16_CH1", 62 PB9/TIM4_CH4/I2C1_SDA(R)/CANTX(R) (io) "SPI2_NSS, I2C1_SDA,  IR_OUT,  TIM17_CH1, EVENTOUT", 63 VSS (power) "Ground", 64 VDD (power) "Digital power supply"

## SY50283
designator DA?
Buck Regulator with CV/CC control
pins: 1 GND, 2 ISEN, 3 VIN (power), 4 VSEN (power), 5 LX (power), 6 LX (power), 7 LX (power), 8 LX (power)

## TJA1050
designator DD?
1/1 Transceiver Half CANbus; MF: NXP USA; LCPN: C6952; MFPN: TJA1050T/CM,118; SnapEDA_Link: https://www.snapeda.com/parts/TJA1050T/CM,118/NXP%20USA%20Inc./view-part/304529/?ref=snap; Value: *; Purchase-URL: https://pricing.snapeda.com/search/part/TJA1050T/CM,118/?ref=eda; Check_prices: https://www.snapeda.com/parts/TJA1050T/CM,118/NXP%20USA%20Inc./view-part/304529/?ref=eda; Price: None; Availability: In Stock; Package: SO-8 NXP Semiconductors; Supplier: LC
footprint SO-8
pins: 1 TXD (in), 2 GND (power), 3 VCC (power), 4 RXD (out), 5 VREF (out), 6 CANL, 7 CANH, 8 S (in)

## TL431NSG
designator U?
PROGRAMMABLE PRECISION REFERENCE, 2.495В, 0.5%, 100мА, (0 +70С), SOT23-3
footprint SOT-23-3 (SOT-23; 3 Leads; Body 3.0 x 2.6 mm, inc. leads (LxW max))
pins: X, Y, Z

## TL494
designator DD?
Buck, Push-Pull Regulator Positive Output Step-Down, Step-Up/Step-Down DC-DC Controller IC
pins: 1 +I1 (in), 2 -I1 (in), 3 COMP, 4 DTC (in), 5 CT (in), 6 RT (in), 7 GND (power), 8 C1, 9 E1, 10 E2, 11 C2, 12 VCC (power), 13 OUTC (in), 14 VREF (out), 15 -I2 (in), 16 +I2 (in)
text: Osci.

## TLP152
designator U?
Optocoupler, Phototransistor Output, MOSFET driver
footprint 11-4L1S
pins: 1 A (in), 3 C (in), 4 VEE (power), 5 VO (out), 6 VCC (power)

## TLP152_COMP_WITH_HCPL_3120
designator U??, comment TLP152
145ns,165ns 10V~30V 20kV/us DC SO-5 Optocouplers - Logic Output ROHS; Manufacturer: TOSHIBA; ID: 3911; MFPN: TLP152(TPL,E); LCPN: C150122; Type: IC MOSFET Drivers; Value: TLP152; Footprint Type: SMD; Supplier: LC; URL: https://www.lcsc.com/product-detail/Optocouplers-Logic-Output_TOSHIBA-TLP152-TPL-E_C150122.html; Symbol: TLP152; Footprint: 11-4L1S
footprint 11-4L1S
pins: 1 A (in), 3 C (in), 4 VEE (power), 5 VO (out), 6 VCC (power)

## TM7780
designator DA?
High-precision electric energy metering IC with frequency outputs
footprint SO-8 (SOIC, 8-Leads, Body 4.9x3.9mm, Pitch 1.27mm)
pins: 1 VDD, 2 VAP (in), 3 VAN (in), 4 VBP (in), 5 GND (power), 6 CF (out), 7 CFA (out), 8 SET (in)

## TNY2XX
designator DA?
TNY274-280 TinySwitch-III Family  Energy Efficient, Off-Line Switcher; Value: TNY274P; Value: TNY274G; Value: TNY275P; Value: TNY275G; Value: TNY276P; Value: TNY276G; Value: TNY277P; Value: TNY277G; Value: TNY278P; Value: TNY278G; Value: TNY279P; Value: TNY279G; Value: TNY280P; Value: TNY280G
footprint DIP8C
footprint SOIC-8C (SOIC, 7-Leads, Body 4.9x3.9mm, Pitch 1.27mm)
pins: 1 EN/UV, 2 BP/M (power), 4 D (oc), 5 S (power), 6 S (power), 7 S (power), 8 S (power)

## TPMP1470GJ-Z
designator DA?
pins: 1 GND, 2 SW, 3 IN, 4 FB, 5 EN, 6 BS

## TSOP38238
designator U?
IR receiver
footprint VISH-TSOP38238 (TH, 3-Leads, Body 5.00x4.80mm, Pitch 2.54mm)
pins: 1 Out, 2 GND "Power Ground", 3 Vs

## TTP223-BA6
designator DA?
IC, 1ch touch pad detector IC, 2.0-5.5V
footprint SOT-23-6 (SOT23, 6-Leads, Body 2.9x1.3mm, Pitch 0.95mm, Lead Span 2.3mm, IPC Medium Density)
pins: 1 Q (out) "CMOS output pin", 2 VSS (power) "Ground", 3 I (io) "Input sensor port", 4 AHLB "Output active high or low selection,  1=>Active low; 0=>Active high", 5 VDD (power) "Supply voltage", 6 TOG "Output type option pin,  1=>Toggle mode; 0=>Direct mode"

## TTP224-ASD
designator DA?
4 KEY TOUCH PAD DETECTOR IC
footprint SOP64P600X175-20N (SOP, 20-Leads, Body 8,65x3,90mm, Pitch 0,64mm, IPC Medium Density)
pins: 1 TP0 (io), 2 TP1 (io), 3 TP2 (io), 4 TP3 (io), 5 AHLB (in), 6 VDD (power), 7 VREG (out), 8 TOG (in), 9 LPMB (in), 10 MOT1 (in), 11 MOT0 (in), 12 VSS (power), 13 REGEN (in), 14 OD (in), 15 SM (in), 16 TPQ3 (out), 17 TPQ2 (out), 18 TPQ1 (out), 19 TPQ0 (out), 20 TPQ0D (out)

## TTP224-BSB
designator DA?
4 KEY TOUCH PAD DETECTOR IC
footprint SSOP16 (SOP, 16-Leads, Body 4,90x3,90mm, Pitch 0,64mm, IPC Medium Density)
pins: 1 TP0 (io), 2 TP1 (io), 3 TP2 (io), 4 TP3 (io), 5 AHLB (in), 6 VDD (power), 7 TOG (in), 8 LPMB (in), 9 MOT0 (in), 10 VSS (power), 11 OD (in), 12 SM (in), 13 TPQ3 (out), 14 TPQ2 (out), 15 TPQ1 (out), 16 TPQ0 (out)

## TX4114
designator DA?
Built-in MOS switch buck type synchronous rectification DC-DC converter, 2A 30V SOP-8L
footprint SO-8 (SOIC, 8-Leads, Body 4.9x3.9mm, Pitch 1.27mm)
pins: 1 VFB, 2 TOFF, 3 CUR, 4 VDD, 5 SW, 6 SW, 7 GND, 8 GND

## UC3842BD1R2G
designator DA?
High Performance Current Mode Controllers
footprint SOIC-8 (SOIC, 8-Leads, Body 4.9x3.9mm, Pitch 1.27mm)
pins: 1 COMP, 2 FB, 3 CS, 4 RC, 5 GND, 6 OUT, 7 VCC, 8 REF

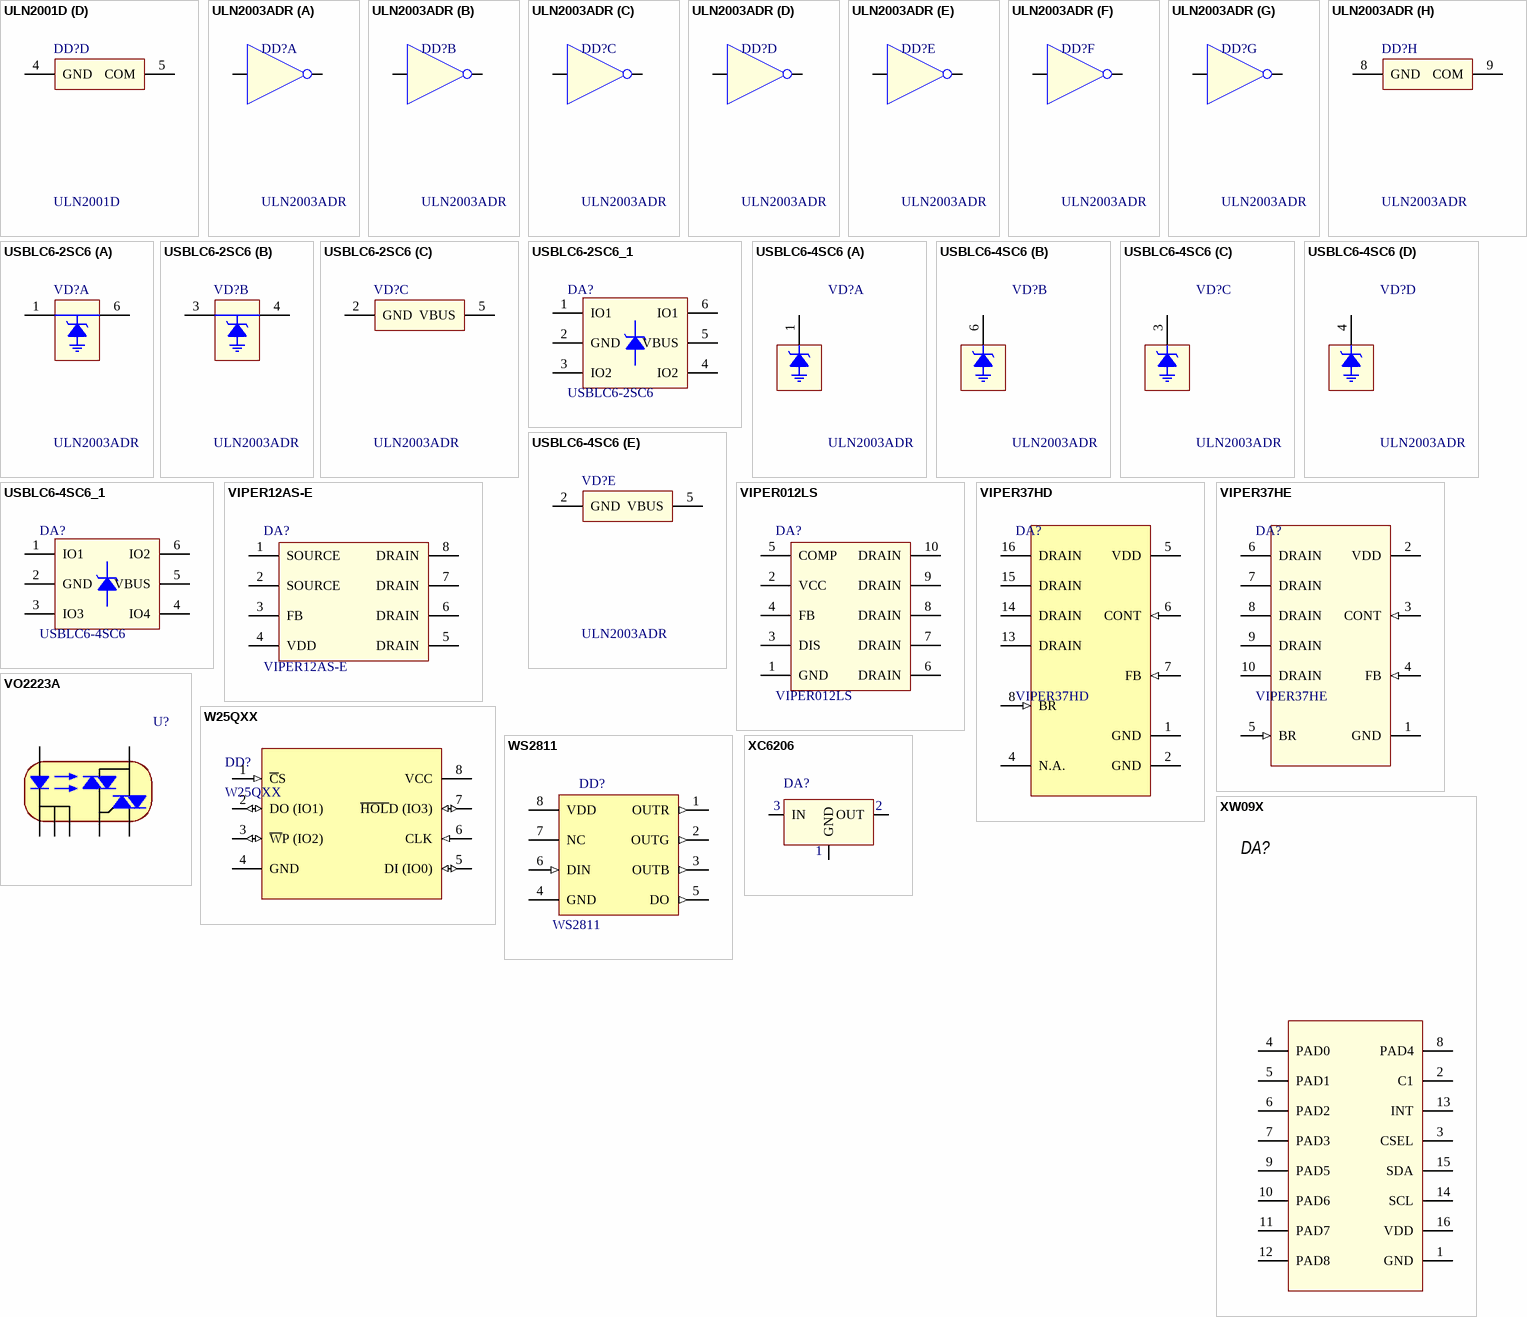
[diagram p13: symbols ULN2001D to XW09X]

## ULN2001D
designator DD?
Darlington NPN Transistor Array, 50V 0.5A SOIC8 Texas Instruments ULN2003ADR, 3-element NPN Darlington Transistor Array, 0.5 A 50 V, 8-Pin SOIC; Manufacturer_Part_Number: ULN2003ADR
footprint SO-16
part A pins: 1 IN 1, 8 OUT 1
part B pins: 2 IN 2, 7 OUT 2
part C pins: 3 IN 3, 6 OUT 3
part D pins: 4 GND, 5 COM

## ULN2003ADR
designator DD?
Darlington NPN Transistor Array, 50V 0.5A SOIC16 Texas Instruments ULN2003ADR, 7-element NPN Darlington Transistor Array, 0.5 A 50 V, 16-Pin SOIC; Manufacturer_Part_Number: ULN2003ADR
footprint SO-16
part A pins: 1 IN 1, 16 OUT 1
part B pins: 2 IN 2, 15 OUT 2
part C pins: 3 IN 3, 14 OUT 3
part D pins: 4 IN 4, 13 OUT 4
part E pins: 5 IN 5, 12 OUT 5
part F pins: 6 IN 6, 11 OUT 6
part G pins: 7 IN 7, 10 OUT 7
part H pins: 8 GND, 9 COM

## USBLC6-2SC6
designator VD?, comment ULN2003ADR
Darlington NPN Transistor Array, 50V 0.5A SOIC16 Texas Instruments ULN2003ADR, 7-element NPN Darlington Transistor Array, 0.5 A 50 V, 16-Pin SOIC; Manufacturer_Part_Number: ULN2003ADR
footprint SO-16
part A pins: 1 IO1, 6 IO1
part B pins: 3 IO2, 4 IO2
part C pins: 2 GND, 5 VBUS

## USBLC6-2SC6_1
designator DA?, comment USBLC6-2SC6
Very low capacitance ESD protection
footprint SOT-23-6 (SOT23, 6-Leads, Body 2.9x1.3mm, Pitch 0.95mm, Lead Span 2.3mm, IPC Medium Density)
pins: 1 IO1, 2 GND, 3 IO2, 4 IO2, 5 VBUS, 6 IO1

## USBLC6-4SC6
designator VD?, comment ULN2003ADR
Darlington NPN Transistor Array, 50V 0.5A SOIC16 Texas Instruments ULN2003ADR, 7-element NPN Darlington Transistor Array, 0.5 A 50 V, 16-Pin SOIC; Manufacturer_Part_Number: ULN2003ADR
footprint SO-16
part A pins: 1 IO1
part B pins: 6 IO2
part C pins: 3 IO3
part D pins: 4 IO4
part E pins: 2 GND, 5 VBUS

## USBLC6-4SC6_1
designator DA?, comment USBLC6-4SC6
Very low capacitance ESD protection
footprint SOT-23-6 (SOT23, 6-Leads, Body 2.9x1.3mm, Pitch 0.95mm, Lead Span 2.3mm, IPC Medium Density)
pins: 1 IO1, 2 GND, 3 IO3, 4 IO4, 5 VBUS, 6 IO2

## VIPER12AS-E
designator DA?
IC, DC-DC controller (ST)
footprint SOIC-8 (SOIC, 8-Leads, Body 4.9x3.9mm, Pitch 1.27mm)
pins: 1 SOURCE, 2 SOURCE, 3 FB, 4 VDD, 5 DRAIN, 6 DRAIN, 7 DRAIN, 8 DRAIN

## VIPER012LS
designator DA?
IC, DC-DC controller (ST)
footprint SSOP10 (SSOP10 package for HVLED001)
pins: 1 GND, 2 VCC, 3 DIS, 4 FB, 5 COMP, 6 DRAIN, 7 DRAIN, 8 DRAIN, 9 DRAIN, 10 DRAIN

## VIPER37HD
designator DA?
IC, DC-DC controller (ST)
footprint SO-16 (SOIC, 16-Leads, Body 9.9x3.9mm, Pitch 1.27mm)
pins: 1 GND (power), 2 GND (power), 4 N.A., 5 VDD (power), 6 CONT (in), 7 FB (in), 8 BR (in), 13 DRAIN (oc), 14 DRAIN (oc), 15 DRAIN (oc), 16 DRAIN (oc)

## VIPER37HE
designator DA?
IC, DC-DC controller (ST)
footprint SDIP10
pins: 1 GND (power), 2 VDD (power), 3 CONT (in), 4 FB (in), 5 BR (in), 6 DRAIN (oc), 7 DRAIN (oc), 8 DRAIN (oc), 9 DRAIN (oc), 10 DRAIN (oc)

## VO2223A
designator U?
DIP-8 Optocouplers
footprint SO-7(Opto)
pins: 1 C, 2 A, 3 C, 4 C, 5 TG, 6 T1, 8 T2

## W25QXX
designator DD?
Flash memory, SPI, SOIC-8
footprint SOIC-8 (208mil)
pins: 1 ~{C}S (in), 2 DO (IO1) (io), 3 ~{W}P (IO2) (io), 4 GND (power), 5 DI (IO0) (io), 6 CLK (in), 7 ~{HOL}D (IO3) (io), 8 VCC (power)

## WS2811
designator DD?
Signal line 256 Gray level 3 channel Constant current LED driver IC
footprint DIP8
footprint SO-8 (SOIC, 8-Leads, Body 4.9x3.9mm, Pitch 1.27mm)
pins: 1 OUTR (out), 2 OUTG (out), 3 OUTB (out), 4 GND (power), 5 DO (out), 6 DIN (in), 7 NC, 8 VDD (power)

## XC6206
designator DA?
Positive voltage regulator, SOT-23-3
pins: X GND, Y IN, Z OUT
text: 3; 2; 1

## XW09X
designator DA?, comment XW09A  (value not drawn)
QUADRUPLE 2-INPUT AND GATES; Manufacturer: Nexperia; Group: Микросхемы; Value: Touch 8 pad; Name: XW09A; Supplier: ООО "Торгэлектроника"; LCSC_PartNumber: C441720
footprint SO-16 (SOIC, 16-Leads, Body 9.9x3.9mm, Pitch 1.27mm)
pins: 1 GND "Input sensor port", 2 C1 "Input sensor port", 3 CSEL "Input sensor port", 4 PAD0 "Input sensor port", 5 PAD1 "Input sensor port", 6 PAD2 "Input sensor port", 7 PAD3 "Input sensor port", 8 PAD4 "Input sensor port", 9 PAD5 "Input sensor port", 10 PAD6 "Input sensor port", 11 PAD7 "Input sensor port", 12 PAD8 "Input sensor port", 13 INT "Input sensor port", 14 SCL "Input sensor port", 15 SDA "Input sensor port", 16 VDD "Input sensor port"